# EAGLE library part 641832-1 (library con-amp)
Universal MATE-N-LOK .250" Centerline, 600 V, 19 - 36 A max Source: http://catalog.tycoelectronics.com/ .. ENG_CD_641832_L.pdf
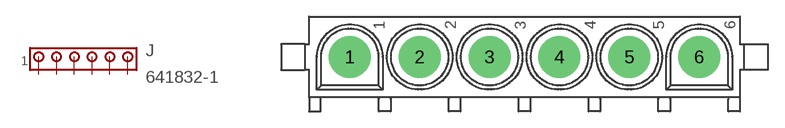
[diagram p171: symbol with the pads of 641832-1; footprint 641832-1]

Designator prefix J

## 641832-1  [641832-1]
1  1  pas
2  2  pas
3  3  pas
4  4  pas
5  5  pas
6  6  pas

## Footprint 641832-1 (pad centres in mm)
Universal MATE-N-LOK .250" Centerline, 600 V, 19 - 36 A max Source: http://catalog.tycoelectronics.com/ .. ENG_CD_641832_L.pdf
drill 1.8 pad 3.81 round: 1 -15.875,0; 2 -9.525,0; 3 -3.175,0; 4 3.175,0; 5 9.525,0; 6 15.875,0